# Altium schematic symbol library Res_Variable.SchLib: 4 symbols
Pins are listed as number, name and electrical type; pins without a type are passive.

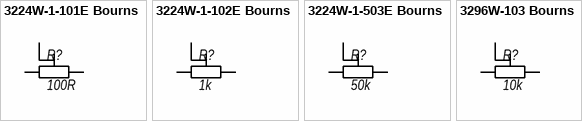
[diagram p0: symbols 3224W-1-101E Bourns to 3296W-103 Bourns]

## 3224W-1-101E Bourns
designator R?, comment 100R
Потенциометр многооборотный керметный 100 Ом 0.25Вт SMD; Partnumber: =Identifier
footprint 3224W
pins: 1, 2, 3
2 alternate drawings of the same symbol

## 3224W-1-102E Bourns
designator R?, comment 1k
Потенциометр многооборотный керметный 1 кОм 0.25Вт SMD; Partnumber: =Identifier
footprint 3224W
pins: 1, 2, 3
2 alternate drawings of the same symbol

## 3224W-1-503E Bourns
designator R?, comment 50k
Потенциометр многооборотный керметный 50 кОм 0.25Вт SMD; Partnumber: =Identifier
footprint 3224W
pins: 1, 2, 3
2 alternate drawings of the same symbol

## 3296W-103 Bourns
designator R?, comment 10k
Partnumber: =Identifier
footprint 3296W
pins: 1, 2, 3
2 alternate drawings of the same symbol